# Altium schematic symbol library OPA2335AID.SchLib: 1 symbol
Pins are listed as number, name and electrical type; pins without a type are passive.

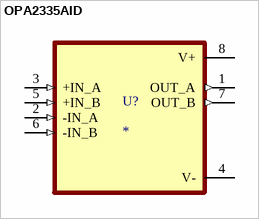
[diagram p0: symbol OPA2335AID]

## OPA2335AID
designator U?
MF: {'manufacturer': u'Texas Instruments'}; MP: OPA2335AID; Package: None; Price: None; Value: *; Availability: Unavailable
footprint SOIC127P599X175-8N
pins: 1 OUT_A (out), 2 -IN_A (in), 3 +IN_A (in), 4 V- (power), 5 +IN_B (in), 6 -IN_B (in), 7 OUT_B (out), 8 V+ (power)